# EAGLE library part 1296-T24 (library con-leotronics)
1.27mm SINGLE ROW FEMALE SOCKET Source: http://www.leotronics.co.uk/Conexcon/Data%20Sheets/sec.%20A/1296ing.pdf
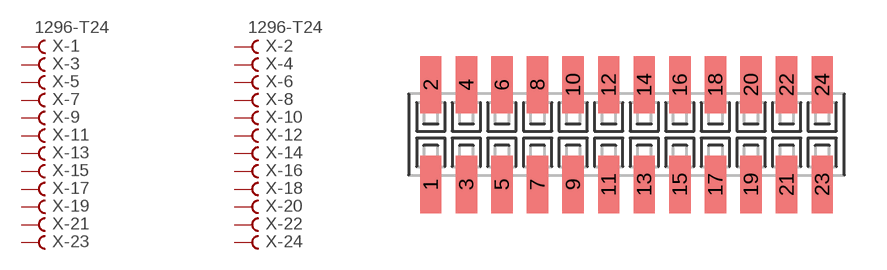
[diagram p63: symbol with the pads of 1296-24; footprint 1296-24]

Designator prefix X; gates -1=FVAL -2=FVAL -3=F -4=F -5=F -6=F -7=F -8=F -9=F -10=F -11=F -12=F -13=F -14=F -15=F -16=F -17=F -18=F -19=F -20=F -21=F -22=F -23=F -24=F

## 1296-T24 (OC_FARNELL: unknown; OC_NEWARK: unknown)  [1296-24]
1  -1:B  pas
2  -2:B  pas
3  -3:B  pas
4  -4:B  pas
5  -5:B  pas
6  -6:B  pas
7  -7:B  pas
8  -8:B  pas
9  -9:B  pas
10  -10:B  pas
11  -11:B  pas
12  -12:B  pas
13  -13:B  pas
14  -14:B  pas
15  -15:B  pas
16  -16:B  pas
17  -17:B  pas
18  -18:B  pas
19  -19:B  pas
20  -20:B  pas
21  -21:B  pas
22  -22:B  pas
23  -23:B  pas
24  -24:B  pas

## Footprint 1296-24 (pad centres in mm)
1.27mm SINGLE ROW FEMALE SOCKET Source: http://www.leotronics.co.uk/Conexcon/Data%20Sheets/sec.%20A/1296ing.pdf
smd 0.76 x 2.05: 1 -6.985,-1.78; 2 -6.985,1.78; 3 -5.715,-1.78; 4 -5.715,1.78; 5 -4.445,-1.78; 6 -4.445,1.78; 7 -3.175,-1.78; 8 -3.175,1.78; 9 -1.905,-1.78; 10 -1.905,1.78; 11 -0.635,-1.78; 12 -0.635,1.78; 13 0.635,-1.78; 14 0.635,1.78; 15 1.905,-1.78; 16 1.905,1.78; 17 3.175,-1.78; 18 3.175,1.78; 19 4.445,-1.78; 20 4.445,1.78; 21 5.715,-1.78; 22 5.715,1.78; 23 6.985,-1.78; 24 6.985,1.78